# Altium schematic symbol library 原理图库.SchLib: 7 symbols
Pins are listed as number, name and electrical type; pins without a type are passive.

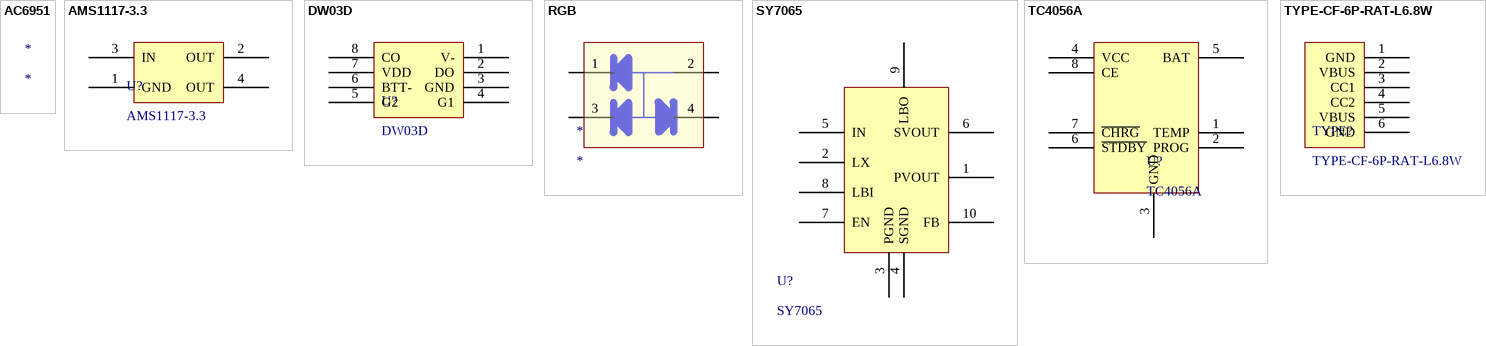
[diagram p0: symbols AC6951 to TYPE-CF-6P-RAT-L6.8W]

## AC6951
designator *

## AMS1117-3.3
designator U?
pins: 1 GND, 2 OUT, 3 IN, 4 OUT

## DW03D
designator U?
footprint TSSOP8 (Shrink Small Outline; 8 Leads; Body Width 4.4 mm; Pitch 0.65 mm)
pins: 1 V-, 2 DO, 3 GND, 4 G1, 5 G2, 6 BTT-, 7 VDD, 8 CO

## RGB
designator *
footprint RGB (3.5*3.2mm)
pins: 1, 2, 3, 4

## SY7065
designator U?
footprint QFN2*2-10
pins: 1 PVOUT, 2 LX, 3 PGND, 4 SGND, 5 IN, 6 SVOUT, 7 EN, 8 LBI, 9 LBO, 10 FB

## TC4056A
designator U?
footprint SOP-8
pins: 1 TEMP, 2 PROG, 3 GND, 4 VCC, 5 BAT, 6 ~{STDBY}, 7 ~{CHRG}, 8 CE

## TYPE-CF-6P-RAT-L6.8W
designator TYPE?
footprint TYPE-CF-6P-RAT-L6.8W
pins: 1 GND, 2 VBUS, 3 CC1, 4 CC2, 5 VBUS, 6 GND